# EAGLE library part 693010010601 (library MicroUSB)
WR-CRD SIM CARD CONNECTOR HEADER 6PINS
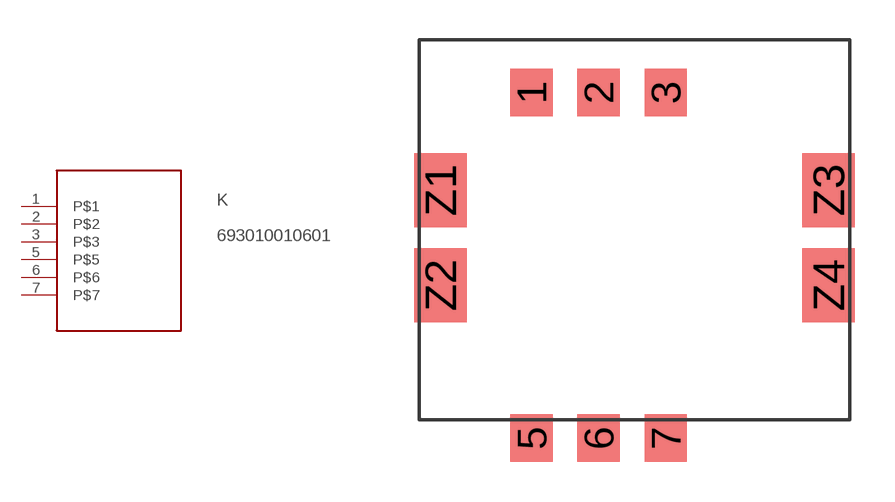
[diagram p31: symbol with the pads of 693010010601; footprint 693010010601]

Designator prefix K

## 693010010601  [693010010601]
1  P$1
2  P$2
3  P$3
5  P$5
6  P$6
7  P$7

## Footprint 693010010601 (pad centres in mm)
WR-CRD SIM CARD CONNECTOR HEADER 6PINS
smd 1.6 x 1.8: 1 0,13.1; 2 2.54,13.1; 3 5.08,13.1; 5 0,0; 6 2.54,0; 7 5.08,0
smd 2 x 2.8: Z1 -3.45,9.4; Z2 -3.45,5.8; Z3 11.25,9.4; Z4 11.25,5.8